# EAGLE library part 555078-1 (library trainlib)
AMP connector
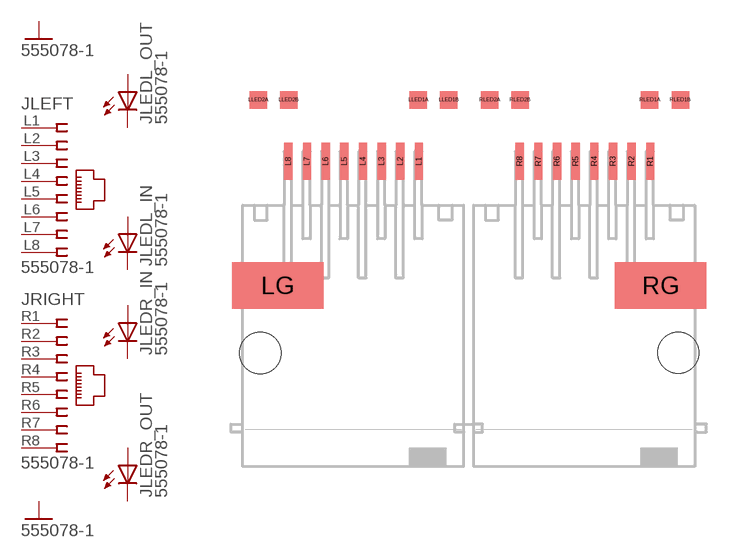
[diagram p1: symbol with the pads of RJSSE-538-1; footprint RJSSE-538-1]

Designator prefix J; gates LEFT=JACK8 RIGHT=JACK8 GND-R=SHIELD GND-L=SHIELD LEDL_OUT=LED LEDL_IN=LED LEDR_IN=LED LEDR_OUT=LED

## 555078-1  [RJSSE-538-1]
L1  LEFT:1  pas
L2  LEFT:2  pas
L3  LEFT:3  pas
L4  LEFT:4  pas
L5  LEFT:5  pas
L6  LEFT:6  pas
L7  LEFT:7  pas
L8  LEFT:8  pas
LG  GND-L:SHIELD  sup
LLED1A  LEDL_IN:A  pas
LLED1B  LEDL_IN:C  pas
LLED2A  LEDL_OUT:A  pas
LLED2B  LEDL_OUT:C  pas
R1  RIGHT:1  pas
R2  RIGHT:2  pas
R3  RIGHT:3  pas
R4  RIGHT:4  pas
R5  RIGHT:5  pas
R6  RIGHT:6  pas
R7  RIGHT:7  pas
R8  RIGHT:8  pas
RG  GND-R:SHIELD  sup
RLED1A  LEDR_OUT:A  pas
RLED1B  LEDR_OUT:C  pas
RLED2A  LEDR_IN:A  pas
RLED2B  LEDR_IN:C  pas

## Footprint RJSSE-538-1 (pad centres in mm)
Modular Jack Keyed with Panel Stops
smd 0.56 x 2.54: L1 -3.425,13.04; L2 -4.695,13.04; L3 -5.965,13.04; L4 -7.235,13.04; L5 -8.505,13.04; L6 -9.775,13.04; L7 -11.045,13.04; L8 -12.315,13.04; R1 12.323,13.04; R2 11.053,13.04; R3 9.783,13.04; R4 8.513,13.04; R5 7.243,13.04; R6 5.973,13.04; R7 4.703,13.04; R8 3.433,13.04
smd 6.22 x 3.18: LG -13.035,4.59; RG 13.035,4.59
smd 1.19 x 1.19: LLED1A -3.465,17.22; LLED1B -1.385,17.22; LLED2A -14.365,17.22; LLED2B -12.285,17.22; RLED1A 12.285,17.22; RLED1B 14.365,17.22; RLED2A 1.385,17.22; RLED2B 3.465,17.22
hole 2.8 at -14.225,0
hole 2.8 at 14.225,0.017